# EAGLE library part POTI-DIGITAL-I2C-DS3502 (library p.peter-ics)
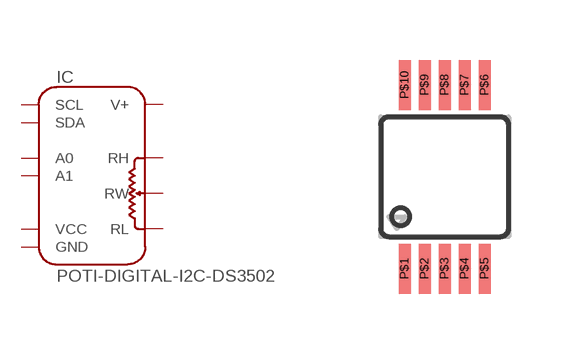
[diagram p16: symbol with the pads of USOP10; footprint USOP10]

Designator prefix IC

## POTI-DIGITAL-I2C-DS3502-µSOP  [USOP10]
P$1  SDA
P$2  GND
P$3  VCC
P$4  A1
P$5  A0
P$6  RH
P$7  RW
P$8  RL
P$9  V+
P$10  SCL

## Footprint USOP10 (pad centres in mm)
smd 0.3 x 1.25: P$1 -1,-2.3; P$2 -0.5,-2.3; P$3 0,-2.3; P$4 0.5,-2.3; P$5 1,-2.3; P$6 1,2.3; P$7 0.5,2.3; P$8 0,2.3; P$9 -0.5,2.3; P$10 -1,2.3